# EAGLE library part LM3886 (library lmopamp2)
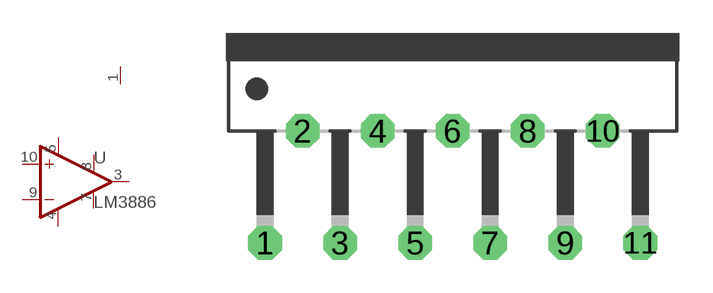
[diagram p0: symbol with the pads of LM3886; footprint LM3886]

Designator prefix -

## LM3886  [LM3886]
1  NC
3  OUT  out
4  V-  pwr
5  V+  pwr
7  GND
8  MUTE
9  IN-  in
10  IN+  in

## Footprint LM3886 (pad centres in mm)
TO-220-16
drill 1.016 octagon: 1 -8.509,-9.525; 2 -6.807,-4.445; 3 -5.105,-9.525; 4 -3.404,-4.445; 5 -1.702,-9.525; 6 0,-4.445; 7 1.702,-9.525; 8 3.404,-4.445; 9 5.105,-9.525; 10 6.807,-4.445; 11 8.509,-9.525